# Altium schematic symbol library Transistors.SchLib: 1 symbol
Pins are listed as number, name and electrical type; pins without a type are passive.

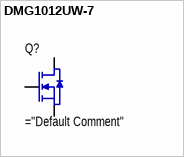
[diagram p0: symbol DMG1012UW-7]

## DMG1012UW-7
designator Q?
MOSFET N-CH 20V 1A SOT323; Manufacturer: Diodes Incorporated; Default Comment: DMG1012UW-7; Power Dissipation: 290 mW; Tolerance: * %; Value: N-channel; Other: N-Channel 20 V 1A (Ta) 290mW (Ta) Surface Mount SOT-323; Case: SOT-323; Operating Temperature: -55 °C to +150 °C; Type: MOSFET; HelpURL: https://www.digikey.com/en/products/detail/diodes-incorporated/DMG1012UW-7/2183239?s=N4IgTCBcDaICIFkDiBGADCsBVA6gWgHYQBdAXyA; Rated Voltage: 20 V; Rated Current: 1 A; Rated Power: 290 mW; Summary: ="Type"+" "+"Part Number"+" "+"Manufacturer"+" "+"Value"+" "+"Tolerance"+" "+"Operating Temperature"+" "+"Case"+" "+"Power Dissipation"+" "+"Rated Current"+" "+"Rated Power"+" "+"Rated Voltage"+" "+"Other"; Part Number: DMG1012UW-7; Assembly: *
footprint DMG1012UW-7 (SOT23, 3-Leads, Body 2,00x2,10mm, Pitch 0,65mm, IPC Medium Density)
pins: D "Drain.", G "Gate.", S "Source."